# Altium schematic symbol library HalfBridgeSchlib1.SchLib: 25 symbols
Pins are listed as number, name and electrical type; pins without a type are passive.

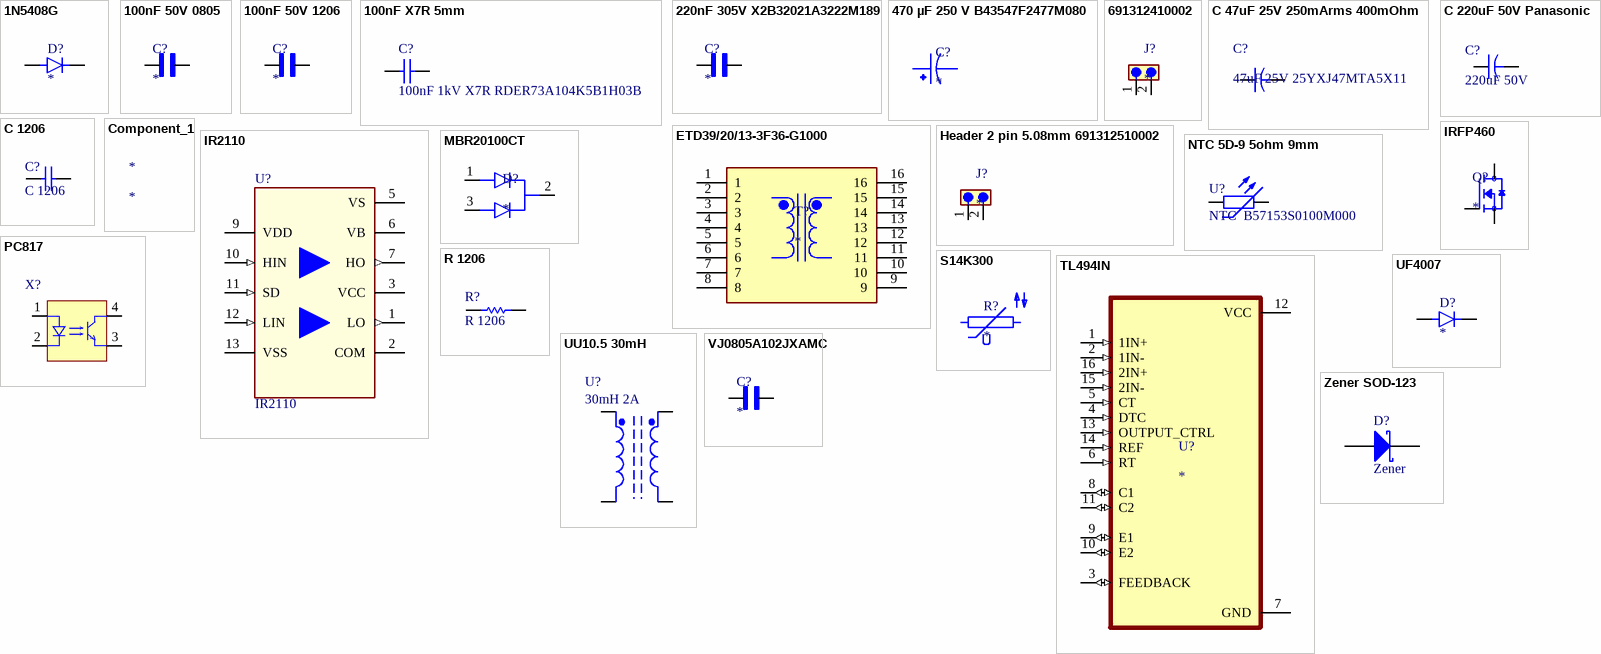
[diagram p0: symbols 1N5408G to Zener SOD-123]

## 1N5408G
designator D?
3A, 1000V, Standard Rectifier; MF: Taiwan Semiconductor; MP: 1N5408G; SnapEDA_Link: https://www.snapeda.com/parts/1N5408G/taiwan/view-part/?ref=snap; Package: DO-201AD Taiwan Semiconductor; Value: *; Check_prices: https://www.snapeda.com/parts/1N5408G/taiwan/view-part/?ref=eda
footprint DIOAD1990W125L900D530
pins: A, C K

## 100nF 50V 0805
designator C?
WCAP-CSGP General Purpose MLCC; SMT 0805; X7R; 100nF 10%; 50V; -55C to +125C; Tech. PN X7R0805104K050DFCT10000; MF: Vishay Vitramon; MP: VJ0805A102JXAMC; SnapEDA_Link: https://www.snapeda.com/parts/VJ0805A102JXAMC/Vishay/view-part/?ref=snap; Package: 2012 Vishay Vitramon; Value: *; Check_prices: https://www.snapeda.com/parts/VJ0805A102JXAMC/Vishay/view-part/?ref=eda
footprint CAPC2012X145N
pins: 1, 2

## 100nF 50V 1206
designator C?
MF: {'manufacturer': u'EPCOS - TDK Electronics'}; MP: B32021A3222M189; Package: None; Price: None; Value: *; Availability: Unavailable
footprint CAPRR1000W60L1300T400H900
pins: 1, 2

## 100nF X7R 5mm
designator C?, comment 100nF 1kV X7R RDER73A104K5B1H03B
490-8944-ND; Published: 8-Jun-2000; LatestRevisionDate: 17-Jul-2002; LatestRevisionNote: Re-released for DXP Platform.; PackageReference: RAD-0.3; Publisher: Altium Limited; PackageDescription: Radial Cap, Thru-Hole; 2 Leads; 0.3 in Pin Spacing
footprint RCE7U2J333J5B1H03B
pins: 1, 2

## 220nF 305V X2B32021A3222M189
designator C?
Cap Film Suppression Y2 0.0022uF 1500VDC/300VAC PP 20% (13 X 4 X 9mm) Radial Plastic Rectangular Can 10mm 110°C Automotive T/R; MF: {'manufacturer': u'EPCOS - TDK Electronics'}; MP: B32021A3222M189; Package: None; Price: None; Value: *; Availability: Unavailable
footprint CAPRR1000W60L1300T400H900
pins: 1, 2

## 470 µF 250 V B43547F2477M080
designator C?
470 µF 250 V Aluminum Electrolytic Capacitors Radial, Can - Snap-In 150mOhm @ 100Hz 3000 Hrs @ 105Â°C; MF: TDK; MP: B43547F2477M080; SnapEDA_Link: https://www.snapeda.com/parts/B43547F2477M080/TDK/view-part/?ref=snap; Package: None; Value: *; Check_prices: https://www.snapeda.com/parts/B43547F2477M080/TDK/view-part/?ref=eda
footprint C470uF 250V AP_B43547F2477M080 (Footprint not found)
pins: 1, 2

## 691312410002
designator J?
7.62mm Pitch Straight Pluggable Term Block, PCB Header, Through Hole, 2 Way ¦ Wurth Electronics 691312410002; MF: WÃ¼rth Elektronik; SnapEDA_Link: https://www.snapeda.com/parts/691312410002/W%25C3%25BCrth+Elektronik+Midcom/view-part/?ref=snap; Package: None; Value: *; MP: 691312410002; Check_prices: https://www.snapeda.com/parts/691312410002/W%25C3%25BCrth+Elektronik+Midcom/view-part/?ref=eda
footprint Header 2 pin 7.62mm 691312410002 (Footprint not found)
pins: 1, 2

## C 47uF 25V 250mArms 400mOhm
designator C?, comment 47uF 25V 25YXJ47MTA5X11
1189-1590-1-ND; ComponentLink1Description: http://www.rubycon.co.jp/en/catalog/e_pdfs/aluminum/e_px.pdf
footprint CAPPRD200W50D525H1250
pins: 1, 2

## C 220uF 50V Panasonic
designator C?, comment 220uF 50V
Manufacturer_Name: AVX; Manufacturer_Part_Number: TPSE107K020R0150; Allied_Number: 70002020; Datasheet Link: http://datasheets.avx.com/TPS.pdf; Height: 4.3mm; Mouser Part Number: 581-TPSE107K020R0150; Mouser Price/Stock: https://www.mouser.com/Search/Refine.aspx?Keyword=581-TPSE107K020R0150; RS Part Number: 1359911P; RS Price/Stock: http://uk.rs-online.com/web/p/products/1359911P; Allied Price/Stock: http://www.alliedelec.com/avx-tpse107k020r0150/70002020/
footprint 22uF 400V (400AX22MEFC12.5X16)
pins: 1, 2

## C 1206
designator C?
SMD 1206; Deger: *
footprint 1206
pins: 1, 2

## Component_1
designator *

## ETD39/20/13-3F36-G1000
designator T?
Uncoated 3F36 Ferrite Core ETD Type 1.575 (40.00mm) Length 0.504 (12.80mm) Width Diameter 0.780 (19.80mm) Height; MF: Ferroxcube; MP: ETD39/20/13-3F36-G1000; SnapEDA_Link: https://www.snapeda.com/parts/ETD39/20/13-3F36-G1000/Ferroxcube/view-part/?ref=snap; Package: Ferroxcube; Value: *; Check_prices: https://www.snapeda.com/parts/ETD39/20/13-3F36-G1000/Ferroxcube/view-part/?ref=eda
footprint XFMR_ETD39/20/13-3F36-G1000
pins: 1, 2, 3, 4, 5, 6, 7, 8, 9, 10, 11, 12, 13, 14, 15, 16

## Header 2 pin 5.08mm 691312510002
designator J?
MF: {'manufacturer': u'W\xfcrth Elektronik'}; MP: 691312510002; Package: None; Price: None; Value: *; Availability: Unavailable
footprint Header 2 pin 5.08mm (Footprint not found)
pins: 1, 2

## IR2110
designator U?
High and Low Side Driver; Manufacturer: Infineon Technologies; Manufacturer Order Number: IR2110; PackageReference: PG-DIP-14-903
pins: 1 LO (out) "Low side gate drive output", 2 COM (power) "Low side return", 3 VCC (power) "Low side supply", 5 VS (power) "High side floating supply return", 6 VB (power) "High side floating supply", 7 HO (out) "High side gate drive output", 9 VDD (power) "Logic Supply", 10 HIN (in) "Logic input for high side gate driver outputs (HO), in phase", 11 SD (in) "Logic input for shutdown", 12 LIN (in) "Logic input for low side gate driver outputs (LO), in phase", 13 VSS (power) "Logic ground"

## IRFP460
designator Q?
N-Channel 500 V 20A (Tc) 280W (Tc) Through Hole TO-247AC; MP: IRFP460; MF: Vishay Siliconix; SnapEDA_Link: https://www.snapeda.com/parts/IRFP460/Vishay+Siliconix/view-part/?ref=snap; Package: TO-247 Vishay Siliconix; Check_prices: https://www.snapeda.com/parts/IRFP460/Vishay+Siliconix/view-part/?ref=eda; Purchase-URL: https://pricing.snapeda.com/search/part/IRFP460/?ref=eda; Price: None; Value: *; Availability: In Stock
footprint TO546P1587X531X2511-3
pins: 1 G, 2 D, 3 S

## MBR20100CT
designator D?
20A, 100V, Planar Schottky; MF: Taiwan Semiconductor; MP: MBR20100CT; SnapEDA_Link: https://www.snapeda.com/parts/MBR20100CT/taiwan/view-part/?ref=snap; Package: TO-220AB-3 Taiwan Semiconductor; Value: *; Check_prices: https://www.snapeda.com/parts/MBR20100CT/taiwan/view-part/?ref=eda
footprint TO254P1066X482X2286-3
pins: 1 ANODE1, 2 COMMON_CATHODE, 3 ANODE2

## NTC 5D-9 5ohm 9mm
designator U?, comment NTC  B57153S0100M000
5D-9; Published: 8-Jun-2000; LatestRevisionDate: 17-Jul-2002; LatestRevisionNote: Re-released for DXP Platform.; PackageReference: AXIAL-0.4; Publisher: Altium Limited; PackageDescription: Axial Device, Thru-Hole; 2 Leads; 0.4 in Pin Spacing
footprint NTC B57153S0100
pins: 1, 2

## PC817
designator X?, comment PC81710NIP1B  (value not drawn)
1855-1014-1-ND
footprint PC817 SMD (DIP; 4 Leads; Row Spacing 7.62 mm; Pitch 2.54 mm)
pins: 1 A, 2 K, 3 E, 4 C

## R 1206
designator R?
SMD 1206; Deger: *
footprint R 1206
pins: 1, 2

## S14K300
designator R?
Varistors 300VAC 125J 775V-CLAMP 6KA-PK; MF: EPCOS / TDK; MP: S14K300; Package: None; Value: *; Availability: Not in stock; Check_prices: https://www.snapeda.com/parts/S14K300/EPCOS+%2528TDK%2529/view-part/?ref=eda; Price: None; SnapEDA_Link: https://www.snapeda.com/parts/S14K300/EPCOS+%2528TDK%2529/view-part/?ref=snap
footprint S14K300
pins: 1, 2

## TL494IN
designator U?
40V, 0.2A 300KHz PWM controller; MF: Texas Instruments; MP: TL494IN; SnapEDA_Link: https://www.snapeda.com/parts/TL494IN/Texas+Instruments/view-part/?ref=snap; Package: PDIP-16 Texas Instruments; Value: *; Check_prices: https://www.snapeda.com/parts/TL494IN/Texas+Instruments/view-part/?ref=eda
footprint DIP794W45P254L1969H508Q16
pins: 1 1IN+ (in), 2 1IN- (in), 3 FEEDBACK (io), 4 DTC (in), 5 CT (in), 6 RT (in), 7 GND (power), 8 C1 (io), 9 E1 (io), 10 E2 (io), 11 C2 (io), 12 VCC (power), 13 OUTPUT_CTRL (in), 14 REF (in), 15 2IN- (in), 16 2IN+ (in)

## UF4007
designator D?
UF4007 Series 1 A 1000 V 75 ns Through Hole Fast Rectifier - DO-41; MF: Fairchild Semiconductor; MP: UF4007.; SnapEDA_Link: https://www.snapeda.com/parts/UF4007./Onsemi/view-part/?ref=snap; Package: DO-41 Fairchild Semiconductor; Value: *; Check_prices: https://www.snapeda.com/parts/UF4007./Onsemi/view-part/?ref=eda
footprint DIOAD1036W78L470D235
pins: A, C K

## UU10.5 30mH
designator U?, comment 30mH 2A
UU10.5 30mH 0.35mm 2A
footprint EMC SMPS TDK (B82732R13MM)
pins: 1, 2, 3, 4

## VJ0805A102JXAMC
designator C?
0805 1nF 50 V Â±5 % Tolerance C0G/NP0 SMT Multilayer Ceramic Chip Capacitor; MF: Vishay Vitramon; MP: VJ0805A102JXAMC; SnapEDA_Link: https://www.snapeda.com/parts/VJ0805A102JXAMC/Vishay/view-part/?ref=snap; Package: 2012 Vishay Vitramon; Value: *; Check_prices: https://www.snapeda.com/parts/VJ0805A102JXAMC/Vishay/view-part/?ref=eda
footprint CAPC2012X145N
pins: 1, 2

## Zener SOD-123
designator D?, comment Zener
SOD-123; Note: Pin 2 is not connected and not drawn.; Published: 21-Mar-2003; LatestRevisionDate: 29-May-2009; LatestRevisionNote: IPC-7351 Footprint Added.; DatasheetVersion: Oct-1999; PackageVersion: Sep-2001; PackageReference: SOT-23; Publisher: Altium Limited; PackageDescription: 3-Pin SOT-23 Package 0.95 mm Pitch, 2.5 mm Lead Span; ComponentLink1Description: Manufacturer Link; ComponentLink1URL: http://www.infineon.com/; ComponentLink2Description: Datasheet; ComponentLink2URL: http://www.infineon.com/upload/Document/cmc_upload/documents/009/363/bat17series.pdf
footprint SOD-123
pins: 1 A, 2 K